# Altium footprint library projectLib.PcbLib: 2 footprints
Each footprint in its own frame and in the unit in brackets; x right, y up, seen from the top. Pads: shape width x height; smd on the part's side, far side on the other; paste and mask are expansions set on the pad; w line width, h text height; cw(c..) or ccw(c..) is an arc to the next point about the centre after c.
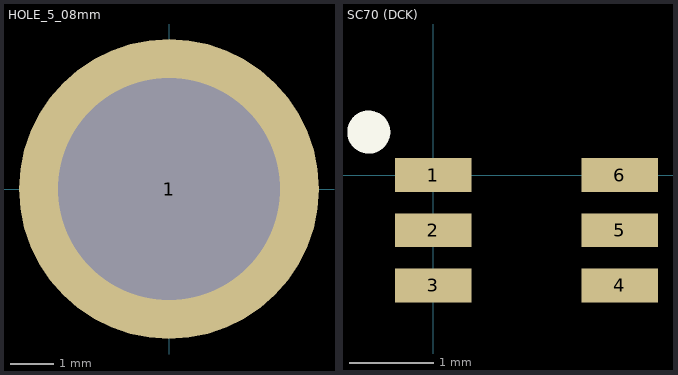
[diagram p0: the footprints below, top view; thin cyan lines are the x and y axes]

## HOLE_5_08mm [mm]
pads (1):
  round 6.85 hole 5.08: 1(0,0)

## SC70 (DCK) [mm] "6 pin"
pads (6):
  rect 0.9x0.4 smd mask+0.05: 1(0,0) 2(0,-0.65) 3(0,-1.3) 4(2.2,-1.3) 5(2.2,-0.65) 6(2.2,0)
Top Overlay:
  circle w0.254: c-0.762,0.508 r0.127